# Altium footprint library main_PcbLib.PcbLib: 30 footprints (part 1 of 2)
Each footprint in its own frame and in the unit in brackets; x right, y up, seen from the top. Pads: shape width x height; smd on the part's side, far side on the other; paste and mask are expansions set on the pad; w line width, h text height; cw(c..) or ccw(c..) is an arc to the next point about the centre after c.
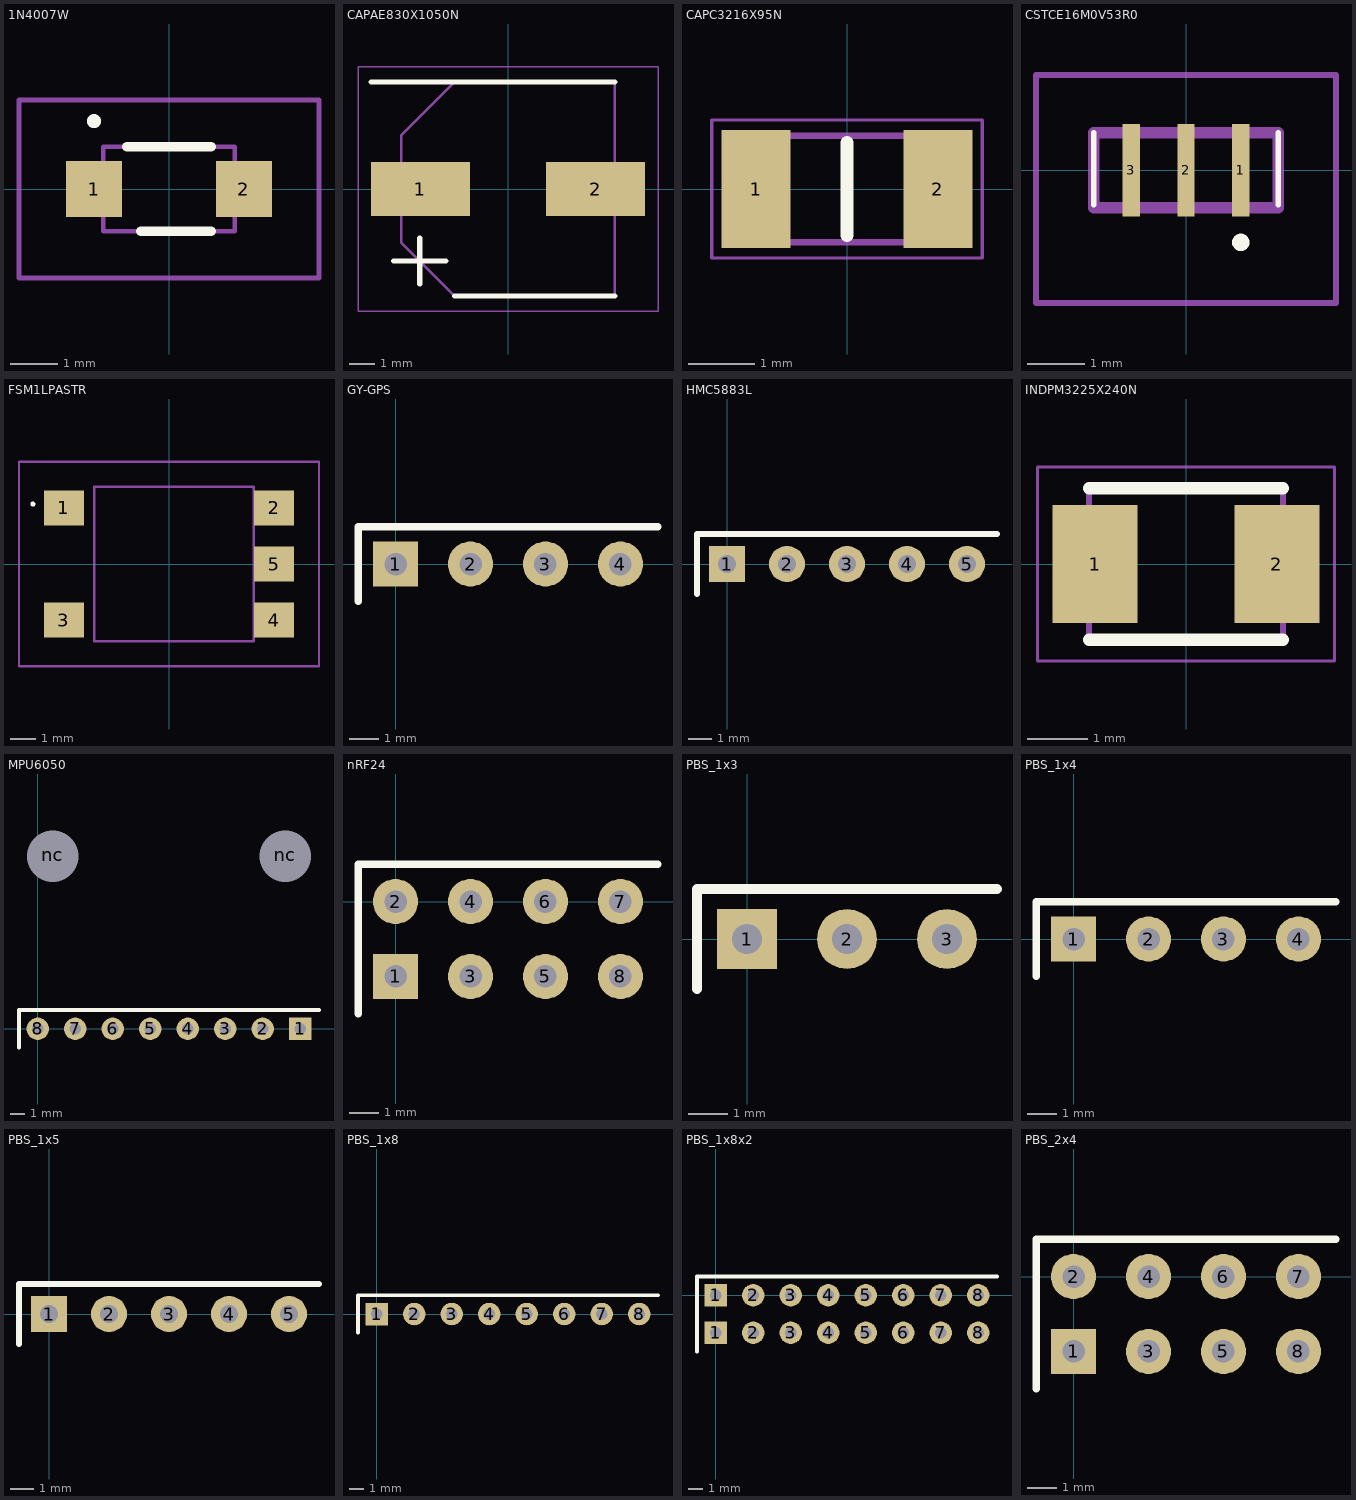
[diagram p0: the footprints below, top view; thin cyan lines are the x and y axes]

## 1N4007W [mm]
pads (2):
  rect 1.2x1.2 smd: 1(-1.6,0) 2(1.6,0)
Top Overlay:
  lines w0.2: -0.9,0.9 0.9,0.9 ; -0.6,-0.9 0.9,-0.9 ; -1.6,1.4 ccw(c-1.6,1.45) -1.6,1.5 ; -1.6,1.4 cw(c-1.6,1.45) -1.6,1.5 ; -1.6,1.4 -1.6,1.5
Mechanical 13:
  lines w0.1: -1.4,-0.9 -1.4,0.9 1.4,0.9 1.4,-0.9 -1.4,-0.9
Mechanical 15:
  lines w0.1: -3.2,-1.9 -3.2,1.9 3.2,1.9 3.2,-1.9 -3.2,-1.9
3D body "1N4007W.stp": height 1.2, standoff 0, extent -2.08,-0.9 2.08,0.9

## CAPAE830X1050N [mm]
pads (2):
  rect 3.85x2.1 smd: 1(-3.4,0) 2(3.4,0)
Top Overlay:
  lines w0.2: -5.325,4.15 4.15,4.15 ; -4.445,-2.794 -2.413,-2.794 ; -3.429,-3.683 -3.429,-1.905 ; -2.075,-4.15 4.15,-4.15
Mechanical 13:
  lines w0.1: -4.15,-2.075 -4.15,2.075 -2.075,4.15 4.15,4.15 4.15,-4.15 -2.075,-4.15 -4.15,-2.075
Mechanical 15:
  lines w0.05: -5.825,-4.75 5.825,-4.75 5.825,4.75 -5.825,4.75 -5.825,-4.75
3D body "EMVY350ADA221MHA0G.stp": height 10.5, standoff 0, extent -4.6,-4.25 4.6,4.25

## CAPC3216X95N [mm]
pads (2):
  rect 1.04x1.78 smd: 1(-1.37,0) 2(1.37,0)
Top Overlay:
  lines w0.2: 0,-0.7 0,0.7
Mechanical 13:
  lines w0.1: -1.6,-0.8 1.6,-0.8 1.6,0.8 -1.6,0.8 -1.6,-0.8
Mechanical 15:
  lines w0.05: -2.04,-1.04 2.04,-1.04 2.04,1.04 -2.04,1.04 -2.04,-1.04
3D body "GRM319R72A104KA01D.stp": height 0.95, standoff 0, extent -1.6,-0.8 1.6,0.8

## CSTCE16M0V53R0 [mm]
pads (3):
  rect 0.3x1.6 smd: 1(0.95,0) 2(0,0) 3(-0.95,0)
Top Overlay:
  lines w0.1: -1.6,-0.6 -1.6,0.65 -1.6,-0.6 ; 1.6,-0.6 1.6,0.65 1.6,-0.6
  lines w0.2: 0.95,-1.3 cw(c0.95,-1.25) 0.95,-1.2 ; 0.95,-1.3 ccw(c0.95,-1.25) 0.95,-1.2 ; 0.95,-1.3 cw(c0.95,-1.25) 0.95,-1.2
Mechanical 13:
  lines w0.2: -1.6,-0.65 -1.6,0.65 1.6,0.65 1.6,-0.65 -1.6,-0.65
Mechanical 15:
  lines w0.1: -2.6,-2.3 -2.6,1.65 2.6,1.65 2.6,-2.3 -2.6,-2.3
3D body "CSTCE16M0V53-R0.stp": height 0.9, standoff 0, extent -1.6,-0.65 1.6,0.65

## FSM1LPASTR [mm]
pads (5):
  rect 1.6x1.395 smd: 1(-4.205,2.248) 2(4.205,2.248) 3(-4.205,-2.247) 4(4.205,-2.247)
  rect 1.6x1.4 smd: 5(4.205,0)
Top Overlay:
  lines w0.1: -5.5,2.4 ccw(c-5.45,2.4) -5.4,2.4 ccw(c-5.45,2.4) -5.5,2.4
Mechanical 13:
  lines w0.1: -3,-3.1 -3,3.1 3.4,3.1 3.4,-3.1 -3,-3.1
Mechanical 15:
  lines w0.1: -6.005,-4.1 -6.005,4.1 6.005,4.1 6.005,-4.1 -6.005,-4.1

## GY-GPS [mil]
pads (4):
  rect 60x60 hole 30: 1(0,0)
  round 60 hole 30: 2(100,0) 3(200,0) 4(300,0)
Top Overlay:
  lines w10: -50,-50 -50,50 350,50
3D body "GY-NEO6MV2-withAnt v2.step": height 748.08, standoff 262.62, extent -353.39,-65 673.39,1336.57
3D body "PBS-1.step": height 334.65, standoff -118.11, extent 250,-50 350,50
3D body "PBS-1.step": height 334.65, standoff -118.11, extent 150,-50 250,50
3D body "PBS-1.step": height 334.65, standoff -118.11, extent 50,-50 150,50
3D body "PBS-1.step": height 334.65, standoff -118.11, extent -50,-50 50,50

## HMC5883L [mil]
pads (5):
  rect 60x60 hole 30: 1(0,0)
  round 60 hole 30: 2(100,0) 3(200,0) 4(300,0) 5(400,0)
Top Overlay:
  lines w10: -50,-50 -50,50 450,50
3D body "GY-273 v6.step": height 456.69, standoff 341.02, extent -66.5,-54.17 465,674.17
3D body "PBS-1.step": height 334.65, standoff -118.11, extent 350,-50 450,50
3D body "PBS-1.step": height 334.65, standoff -118.11, extent -50,-50 50,50
3D body "PBS-1.step": height 334.65, standoff -118.11, extent 50,-50 150,50
3D body "PBS-1.step": height 334.65, standoff -118.11, extent 150,-50 250,50
3D body "PBS-1.step": height 334.65, standoff -118.11, extent 250,-50 350,50

## INDPM3225X240N [mm]
pads (2):
  rect 1.4x1.95 smd: 1(-1.5,0) 2(1.5,0)
Top Overlay:
  lines w0.2: -1.6,-1.25 1.6,-1.25 ; -1.6,1.25 1.6,1.25
Mechanical 13:
  lines w0.1: -1.6,-1.25 -1.6,1.25 1.6,1.25 1.6,-1.25 -1.6,-1.25
Mechanical 15:
  lines w0.05: -2.45,-1.6 -2.45,1.6 2.45,1.6 2.45,-1.6 -2.45,-1.6
3D body "NLCV32T-1R0M-EF.stp": height 2.4, standoff 0, extent -1.6,-1.25 1.6,1.25

## MPU6050 [mil]
pads (10):
  rect 60x60 hole 30: 1(700,0)
  round 60 hole 30: 2(600,0) 3(500,0) 4(400,0) 5(300,0) 6(200,0) 7(100,0) 8(0,0)
  round 78.74 hole 137.8: nc(40,460) nc(660,460)
Top Overlay:
  lines w10: -50,-50 -50,50 750,50
3D body "PBS-1.step": height 334.65, standoff -118.11, extent -50,-50 50,50
3D body "PBS-1.step": height 334.65, standoff -118.11, extent 50,-50 150,50
3D body "PBS-1.step": height 334.65, standoff -118.11, extent 150,-50 250,50
3D body "PBS-1.step": height 334.65, standoff -118.11, extent 250,-50 350,50
3D body "PBS-1.step": height 334.65, standoff -118.11, extent 350,-50 450,50
3D body "PBS-1.step": height 334.65, standoff -118.11, extent 450,-50 550,50
3D body "PBS-1.step": height 334.65, standoff -118.11, extent 550,-50 650,50
3D body "PBS-1.step": height 334.65, standoff -118.11, extent 650,-50 750,50
3D body "MPU6050 Module.step": height 559.05, standoff 107.87, extent -47.33,-50.2 755,550.2

## nRF24 [mil]
pads (8):
  rect 60x60 hole 30: 1(0,-100)
  round 60 hole 30: 2(0,0) 3(100,-100) 4(100,0) 5(200,-100) 6(200,0) 7(300,0) 8(300,-100)
Top Overlay:
  lines w10: -50,-150 -50,50 350,50
3D body "PBS-1.step": height 334.65, standoff -118.11, extent 250,-50 350,50
3D body "PBS-1.step": height 334.65, standoff -118.11, extent 150,-50 250,50
3D body "PBS-1.step": height 334.65, standoff -118.11, extent 50,-50 150,50
3D body "PBS-1.step": height 334.65, standoff -118.11, extent -50,-50 50,50
3D body "PBS-1.step": height 334.65, standoff -118.11, extent -50,-150 50,-50
3D body "PBS-1.step": height 334.65, standoff -118.11, extent 50,-150 150,-50
3D body "PBS-1.step": height 334.65, standoff -118.11, extent 150,-150 250,-50
3D body "PBS-1.step": height 334.65, standoff -118.11, extent 250,-150 350,-50
3D body "NRF24L01L+Antenna.STEP": height 915, standoff 98.43, extent -155.51,-173.23 454.72,5787.4

## PBS_1x3 [mil]
pads (3):
  rect 60x60 hole 30: 1(0,0)
  round 60 hole 30: 2(100,0) 3(200,0)
Top Overlay:
  lines w10: -50,-50 -50,50 250,50
3D body "PBS-1.step": height 334.65, standoff -118.11, extent 150,-50 250,50
3D body "PBS-1.step": height 334.65, standoff -118.11, extent 50,-50 150,50
3D body "PBS-1.step": height 334.65, standoff -118.11, extent -50,-50 50,50

## PBS_1x4 [mil]
pads (4):
  rect 60x60 hole 30: 1(0,0)
  round 60 hole 30: 2(100,0) 3(200,0) 4(300,0)
Top Overlay:
  lines w10: -50,-50 -50,50 350,50
3D body "PBS-1.step": height 334.65, standoff -118.11, extent 250,-50 350,50
3D body "PBS-1.step": height 334.65, standoff -118.11, extent 150,-50 250,50
3D body "PBS-1.step": height 334.65, standoff -118.11, extent 50,-50 150,50
3D body "PBS-1.step": height 334.65, standoff -118.11, extent -50,-50 50,50

## PBS_1x5 [mil]
pads (5):
  rect 60x60 hole 30: 1(0,0)
  round 60 hole 30: 2(100,0) 3(200,0) 4(300,0) 5(400,0)
Top Overlay:
  lines w10: -50,-50 -50,50 450,50
3D body "PBS-1.step": height 334.65, standoff -118.11, extent 350,-50 450,50
3D body "PBS-1.step": height 334.65, standoff -118.11, extent -50,-50 50,50
3D body "PBS-1.step": height 334.65, standoff -118.11, extent 50,-50 150,50
3D body "PBS-1.step": height 334.65, standoff -118.11, extent 150,-50 250,50
3D body "PBS-1.step": height 334.65, standoff -118.11, extent 250,-50 350,50

## PBS_1x8 [mil]
pads (8):
  rect 60x60 hole 30: 1(0,0)
  round 60 hole 30: 2(100,0) 3(200,0) 4(300,0) 5(400,0) 6(500,0) 7(600,0) 8(700,0)
Top Overlay:
  lines w10: -50,-50 -50,50 750,50
3D body "PBS-1.step": height 334.65, standoff -118.11, extent 650,-50 750,50
3D body "PBS-1.step": height 334.65, standoff -118.11, extent 550,-50 650,50
3D body "PBS-1.step": height 334.65, standoff -118.11, extent 450,-50 550,50
3D body "PBS-1.step": height 334.65, standoff -118.11, extent 350,-50 450,50
3D body "PBS-1.step": height 334.65, standoff -118.11, extent -50,-50 50,50
3D body "PBS-1.step": height 334.65, standoff -118.11, extent 50,-50 150,50
3D body "PBS-1.step": height 334.65, standoff -118.11, extent 150,-50 250,50
3D body "PBS-1.step": height 334.65, standoff -118.11, extent 250,-50 350,50

## PBS_1x8x2 [mil]
pads (16):
  rect 60x60 hole 30: 1(0,-100) 1(0,0)
  round 60 hole 30: 2(100,-100) 2(100,0) 3(200,-100) 3(200,0) 4(300,-100) 4(300,0) 5(400,-100) 5(400,0) 6(500,-100) 6(500,0) 7(600,-100) 7(600,0) 8(700,-100) 8(700,0)
Top Overlay:
  lines w10: -50,-150 -50,50 750,50
3D body "PBS-1.step": height 334.65, standoff -118.11, extent 250,-50 350,50
3D body "PBS-1.step": height 334.65, standoff -118.11, extent 150,-50 250,50
3D body "PBS-1.step": height 334.65, standoff -118.11, extent 50,-50 150,50
3D body "PBS-1.step": height 334.65, standoff -118.11, extent -50,-50 50,50
3D body "PBS-1.step": height 334.65, standoff -118.11, extent 350,-50 450,50
3D body "PBS-1.step": height 334.65, standoff -118.11, extent 450,-50 550,50
3D body "PBS-1.step": height 334.65, standoff -118.11, extent 550,-50 650,50
3D body "PBS-1.step": height 334.65, standoff -118.11, extent 650,-50 750,50
3D body "PBS-1.step": height 334.65, standoff -118.11, extent -50,-150 50,-50
3D body "PBS-1.step": height 334.65, standoff -118.11, extent 50,-150 150,-50
3D body "PBS-1.step": height 334.65, standoff -118.11, extent 150,-150 250,-50
3D body "PBS-1.step": height 334.65, standoff -118.11, extent 250,-150 350,-50
3D body "PBS-1.step": height 334.65, standoff -118.11, extent 350,-150 450,-50
3D body "PBS-1.step": height 334.65, standoff -118.11, extent 450,-150 550,-50
3D body "PBS-1.step": height 334.65, standoff -118.11, extent 550,-150 650,-50
3D body "PBS-1.step": height 334.65, standoff -118.11, extent 650,-150 750,-50

## PBS_2x4 [mil]
pads (8):
  rect 60x60 hole 30: 1(0,-100)
  round 60 hole 30: 2(0,0) 3(100,-100) 4(100,0) 5(200,-100) 6(200,0) 7(300,0) 8(300,-100)
Top Overlay:
  lines w10: -50,-150 -50,50 350,50
3D body "PBS-1.step": height 334.65, standoff -118.11, extent 250,-50 350,50
3D body "PBS-1.step": height 334.65, standoff -118.11, extent 150,-50 250,50
3D body "PBS-1.step": height 334.65, standoff -118.11, extent 50,-50 150,50
3D body "PBS-1.step": height 334.65, standoff -118.11, extent -50,-50 50,50
3D body "PBS-1.step": height 334.65, standoff -118.11, extent -50,-150 50,-50
3D body "PBS-1.step": height 334.65, standoff -118.11, extent 50,-150 150,-50
3D body "PBS-1.step": height 334.65, standoff -118.11, extent 150,-150 250,-50
3D body "PBS-1.step": height 334.65, standoff -118.11, extent 250,-150 350,-50